# EAGLE library part TLV320AIC10 (library camillo_parts)
TLV320AIC10 - 22ksps Audio Codec
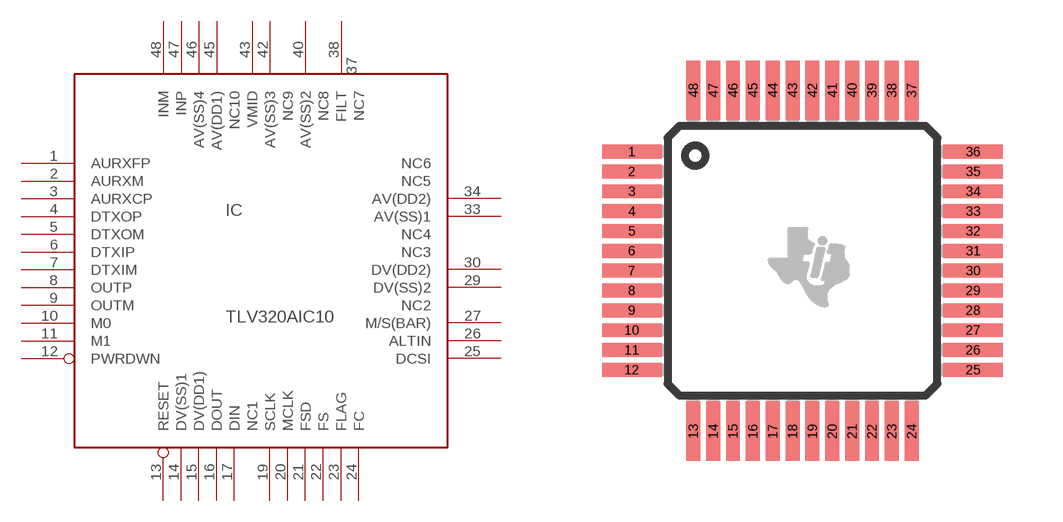
[diagram p2: symbol with the pads of PQFP48; footprint PQFP48]

Designator prefix IC

## TLV320AIC10  [PQFP48]
1  AURXFP  in
2  AURXM  in
3  AURXCP  in
4  DTXOP  out
5  DTXOM  out
6  DTXIP  in
7  DTXIM  in
8  OUTP  out
9  OUTM  out
10  M0  in
11  M1  in
12  PWRDWN  in
13  RESET  in
14  DV(SS)1  in
15  DV(DD1)  in
16  DOUT  out
17  DIN  in
18  NC1  nc
19  SCLK
20  MCLK  in
21  FSD  out
22  FS
23  FLAG  out
24  FC  in
25  DCSI  in
26  ALTIN  in
27  M/S(BAR)  in
28  NC2  nc
29  DV(SS)2  in
30  DV(DD2)  in
31  NC3  nc
32  NC4  nc
33  AV(SS)1  in
34  AV(DD2)  in
35  NC5  nc
36  NC6  nc
37  NC7  nc
38  FILT  out
39  NC8  nc
40  AV(SS)2  in
41  NC9  nc
42  AV(SS)3  in
43  VMID  out
44  NC10  nc
45  AV(DD1)  in
46  AV(SS)4  in
47  INP  in
48  INM  in

## Footprint PQFP48 (pad centres in mm)
Platic Quad Flat Package
smd 1.5 x 0.35: 1 -4.3,2.75; 2 -4.3,2.25; 3 -4.3,1.75; 4 -4.3,1.25; 5 -4.3,0.75; 6 -4.3,0.25; 7 -4.3,-0.25; 8 -4.3,-0.75; 9 -4.3,-1.25; 10 -4.3,-1.75; 11 -4.3,-2.25; 12 -4.3,-2.75; 25 4.3,-2.75; 26 4.3,-2.25; 27 4.3,-1.75; 28 4.3,-1.25; 29 4.3,-0.75; 30 4.3,-0.25; 31 4.3,0.25; 32 4.3,0.75; 33 4.3,1.25; 34 4.3,1.75; 35 4.3,2.25; 36 4.3,2.75
smd 0.35 x 1.5: 13 -2.75,-4.3; 14 -2.25,-4.3; 15 -1.75,-4.3; 16 -1.25,-4.3; 17 -0.75,-4.3; 18 -0.25,-4.3; 19 0.25,-4.3; 20 0.75,-4.3; 21 1.25,-4.3; 22 1.75,-4.3; 23 2.25,-4.3; 24 2.75,-4.3; 37 2.75,4.3; 38 2.25,4.3; 39 1.75,4.3; 40 1.25,4.3; 41 0.75,4.3; 42 0.25,4.3; 43 -0.25,4.3; 44 -0.75,4.3; 45 -1.25,4.3; 46 -1.75,4.3; 47 -2.25,4.3; 48 -2.75,4.3